# EAGLE library part NODEMCU32S (library nodeMCU)
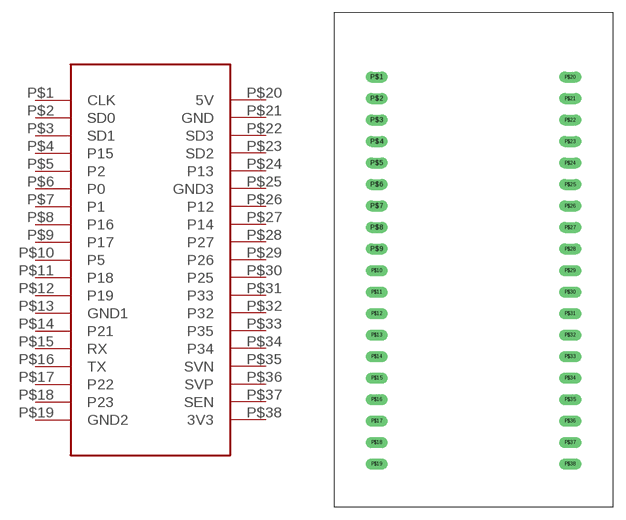
[diagram p0: symbol with the pads of NODEMCU32; footprint NODEMCU32]

Designator prefix -

## NODEMCU32S  [NODEMCU32]
P$1  CLK
P$2  SD0
P$3  SD1
P$4  P15
P$5  P2
P$6  P0
P$7  P1
P$8  P16
P$9  P17
P$10  P5
P$11  P18
P$12  P19
P$13  GND1
P$14  P21
P$15  RX
P$16  TX
P$17  P22
P$18  P23
P$19  GND2
P$20  5V
P$21  GND
P$22  SD3
P$23  SD2
P$24  P13
P$25  GND3
P$26  P12
P$27  P14
P$28  P27
P$29  P26
P$30  P25
P$31  P33
P$32  P32
P$33  P35
P$34  P34
P$35  SVN
P$36  SVP
P$37  SEN
P$38  3V3

## Footprint NODEMCU32 (pad centres in mm)
drill 0.8 long: P$1 0,0; P$2 0,-2.54; P$3 0,-5.08; P$4 0,-7.62; P$5 0,-10.16; P$6 0,-12.7; P$7 0,-15.24; P$8 0,-17.78; P$9 0,-20.32; P$10 0,-22.86; P$11 0,-25.4; P$12 0,-27.94; P$13 0,-30.48; P$14 0,-33.02; P$15 0,-35.56; P$16 0,-38.1; P$17 0,-40.64; P$18 0,-43.18; P$19 0,-45.72; P$20 22.86,0; P$21 22.86,-2.54; P$22 22.86,-5.08; P$23 22.86,-7.62; P$24 22.86,-10.16; P$25 22.86,-12.7; P$26 22.86,-15.24; P$27 22.86,-17.78; P$28 22.86,-20.32; P$29 22.86,-22.86; P$30 22.86,-25.4; P$31 22.86,-27.94; P$32 22.86,-30.48; P$33 22.86,-33.02; P$34 22.86,-35.56; P$35 22.86,-38.1; P$36 22.86,-40.64; P$37 22.86,-43.18; P$38 22.86,-45.72